# EAGLE library part SAMTEC (library arh)
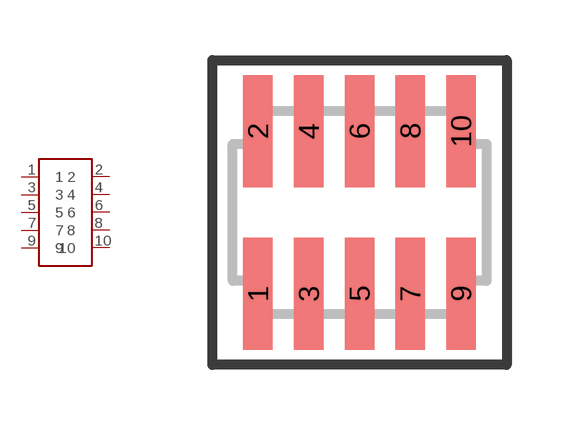
[diagram p3: symbol with the pads of FTSH-105-01-XXX-DV-K; footprint FTSH-105-01-XXX-DV-K]

Designator prefix -

## SAMTEC  [FTSH-105-01-XXX-DV-K]
1  1
2  2
3  3
4  4
5  5
6  6
7  7
8  8
9  9
10  10

## Footprint FTSH-105-01-XXX-DV-K (pad centres in mm)
TERMINAL STRIP, .050 inch(1.27mm) PITCH, 10 PINS, KEYED
smd 0.737 x 2.794: 1 -2.54,-2.032; 2 -2.54,2.032; 3 -1.27,-2.032; 4 -1.27,2.032; 5 0,-2.032; 6 0,2.032; 7 1.27,-2.032; 8 1.27,2.032; 9 2.54,-2.032; 10 2.54,2.032